# Altium schematic symbol library TDA7266.SchLib: 1 symbol
Pins are listed as number, name and electrical type; pins without a type are passive.

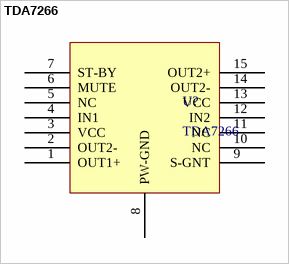
[diagram p0: symbol TDA7266]

## TDA7266
designator U?
footprint TDA7266
pins: 1 OUT1+, 2 OUT2-, 3 VCC, 4 IN1, 5 NC, 6 MUTE, 7 ST-BY, 8 PW-GND, 9 S-GNT, 10 NC, 11 NC, 12 IN2, 13 VCC, 14 OUT2-, 15 OUT2+